# Altium footprint library KlokWave.PcbLib: 24 footprints (part 2 of 2)
Each footprint in its own frame and in the unit in brackets; x right, y up, seen from the top. Pads: shape width x height; smd on the part's side, far side on the other; paste and mask are expansions set on the pad; w line width, h text height; cw(c..) or ccw(c..) is an arc to the next point about the centre after c.
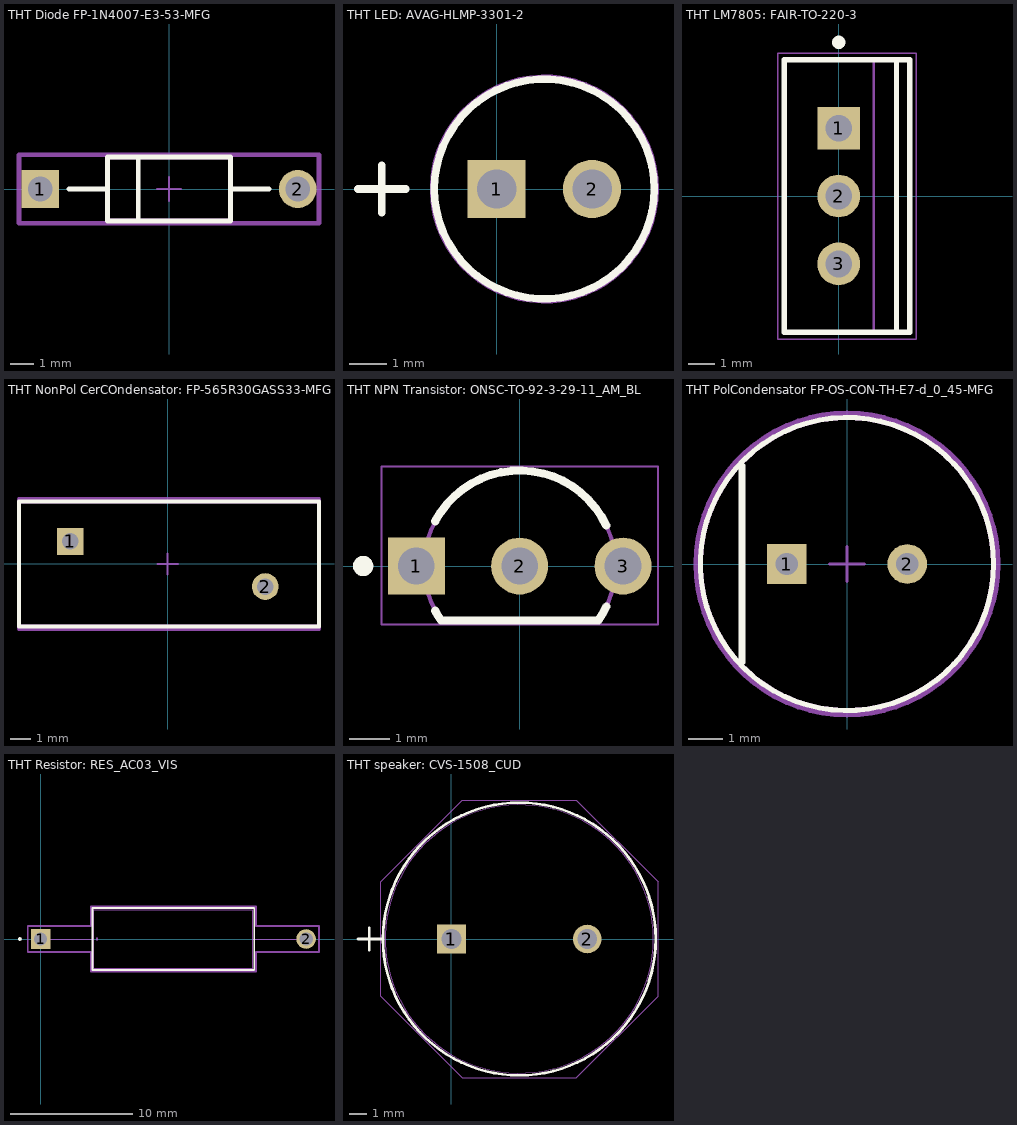
[diagram p1: the footprints below, top view; thin cyan lines are the x and y axes]

## THT Diode FP-1N4007-E3-53-MFG [mm]
pads (2):
  rect 1.6x1.6 hole 1.05: 1(-5.438,0)
  round 1.6 hole 1.05: 2(5.438,0)
Top Overlay:
  lines w0.2: -4.238,0 -2.6,0 ; -1.3,-1.28 -1.3,1.28 ; 2.6,0 4.238,0 ; -2.6,-1.35 -2.6,1.35 2.6,1.35 2.6,-1.35 -2.6,-1.35
Top 3D Body:
  lines w0.2: -2.6,-1.35 -2.6,1.35 2.6,1.35 2.6,-1.35 -2.6,-1.35
Top Courtyard:
  lines w0.2: -6.338,-1.45 -6.338,1.45 6.338,1.45 6.338,-1.45 -6.338,-1.45
Top Assembly:
  lines w0.2: -6.338,-1.45 -6.338,1.45 6.338,1.45 6.338,-1.45 -6.338,-1.45
Top Component Center:
  lines w0.1: -0.5,0 0.5,0 ; 0,-0.5 0,0.5
3D body "Diode_Vishay_1N4007-E3-53_eec.STEP": height 0.25, standoff 0, extent -6.338,-1.45 6.338,1.45

## THT LED: AVAG-HLMP-3301-2 [mm] "THD, 2-Leads, Body Dia 5.85mm"
pads (2):
  rect 1.55x1.55 hole 1.05: 1(0,0)
  round 1.55 hole 1.05: 2(2.54,0)
Top Overlay:
  circle w0.2: c1.27,0 r2.923
  lines w0.2: -3.683,0 -2.413,0 ; -3.048,-0.635 -3.048,0.635
Mechanical 13:
  circle w0.1: c1.27,0 r2.923
Mechanical 15:
  circle w0.05: c1.27,0 r3.023

## THT LM7805: FAIR-TO-220-3 [mm] "FM, 3-Leads, Body 10.2x4.7mm, Pitch 2.54mm"
height 18.95
pads (3):
  rect 1.6x1.6 hole 1: 1(0,2.54)
  round 1.6 hole 1: 2(0,0) 3(0,-2.54)
Top Overlay:
  circle w0.25: c0,5.75 r0.125
  lines w0.2: 2.16,-5.1 2.16,5.1 ; -2.04,-5.1 2.66,-5.1 2.66,5.1 -2.04,5.1 -2.04,-5.1
Mechanical 13:
  lines w0.1: 1.31,-5.1 1.31,5.1 ; -2.04,-5.1 -2.04,5.1 2.66,5.1 2.66,-5.1 -2.04,-5.1
Mechanical 15:
  lines w0.05: -2.29,-5.35 -2.29,5.35 2.91,5.35 2.91,-5.35 -2.29,-5.35
  lines w0.1: -0.5,0 0.5,0 ; 0,-0.5 0,0.5
3D body: height 3, standoff 0, extent -0.265,1.78 0.265,3.3
3D body: height 0, standoff -1.6, extent -0.265,2.14 0.265,2.94
3D body: height 3, standoff 0, extent -0.265,-0.76 0.265,0.76
3D body: height 0, standoff -1.6, extent -0.265,-0.4 0.265,0.4
3D body: height 3, standoff 0, extent -0.265,-3.3 0.265,-1.78
3D body: height 0, standoff -1.6, extent -0.265,-2.94 0.265,-2.14
3D body: height 14.35, standoff 12.2, extent 1.31,-4.95 2.66,4.95
3D body: height 14.39, standoff 14.35, extent 1.31,0.351 2.66,4.95
3D body: height 14.39, standoff 14.35, extent 1.31,-4.95 2.66,-0.351
3D body: height 17.95, standoff 17.92, extent 1.31,0.351 2.66,4.95
3D body: height 17.95, standoff 17.92, extent 1.31,-4.95 2.66,-0.351
3D body: height 14.49, standoff 14.38, extent 1.31,-4.95 2.66,-0.689
3D body: height 17.92, standoff 17.81, extent 1.31,0.689 2.66,4.95
3D body: height 17.92, standoff 17.81, extent 1.31,-4.95 2.66,-0.689
3D body: height 14.66, standoff 14.49, extent 1.31,1 2.66,4.95
3D body: height 14.66, standoff 14.49, extent 1.31,-4.95 2.66,-1
3D body: height 17.82, standoff 17.65, extent 1.31,1 2.66,4.95
3D body: height 17.82, standoff 17.65, extent 1.31,-4.95 2.66,-1
3D body: height 14.88, standoff 14.65, extent 1.31,1.273 2.66,4.95
3D body: height 14.88, standoff 14.65, extent 1.31,-4.95 2.66,-1.273
3D body: height 17.65, standoff 17.42, extent 1.31,1.273 2.66,4.95
3D body: height 17.65, standoff 17.42, extent 1.31,-4.95 2.66,-1.273
3D body: height 15.15, standoff 14.88, extent 1.31,1.497 2.66,4.95
3D body: height 15.15, standoff 14.88, extent 1.31,-4.95 2.66,-1.497
3D body: height 17.43, standoff 17.15, extent 1.31,1.497 2.66,4.95
3D body: height 17.43, standoff 17.15, extent 1.31,-4.95 2.66,-1.497
3D body: height 15.47, standoff 15.15, extent 1.31,1.663 2.66,4.95
3D body: height 15.47, standoff 15.15, extent 1.31,-4.95 2.66,-1.663
3D body: height 17.16, standoff 16.84, extent 1.31,1.663 2.66,4.95
3D body: height 17.16, standoff 16.84, extent 1.31,-4.95 2.66,-1.663
3D body: height 15.8, standoff 15.46, extent 1.31,1.765 2.66,4.95
3D body: height 15.8, standoff 15.46, extent 1.31,-4.95 2.66,-1.765
3D body: height 16.84, standoff 16.5, extent 1.31,1.765 2.66,4.95
3D body: height 16.84, standoff 16.5, extent 1.31,-4.95 2.66,-1.765
3D body: height 16.15, standoff 15.8, extent 1.31,1.8 2.66,4.95
3D body: height 16.15, standoff 15.8, extent 1.31,-4.95 2.66,-1.8
3D body: height 16.51, standoff 16.15, extent 1.31,1.8 2.66,4.95
3D body: height 16.51, standoff 16.15, extent 1.31,-4.95 2.66,-1.8
3D body: height 18.95, standoff 17.95, extent 1.31,-4.95 2.66,4.95
3D body: height 14.49, standoff 14.38, extent 1.31,0.689 2.66,4.95
3D body: height 12.2, standoff 3, extent -2.04,-5.1 2.66,5.1

## THT NonPol CerCOndensator: FP-565R30GASS33-MFG [mm]
pads (2):
  rect 1.3x1.3 hole 0.8: 1(-4.75,1.1)
  round 1.3 hole 0.8: 2(4.75,-1.1)
Top Overlay:
  lines w0.2: -7.239,-3.05 7.366,-3.05 7.366,3.05 -7.239,3.05 -7.239,-3.05
Top 3D Body:
  lines w0.2: -7.239,-3.05 7.366,-3.05 7.366,3.05 -7.239,3.05 -7.239,-3.05
Top Courtyard:
  lines w0.2: -7.239,-3.15 7.366,-3.15 7.366,3.048 -7.239,3.048 -7.239,-3.15
Top Assembly:
  lines w0.2: -7.239,-3.15 7.366,-3.15 7.366,3.15 -7.239,3.15 -7.239,-3.15
Top Component Center:
  lines w0.1: -0.5,0 0.5,0 ; 0,-0.5 0,0.5
3D body: height 0.25, standoff 0, extent -7.239,-3.15 7.366,3.15

## THT NPN Transistor: ONSC-TO-92-3-29-11_AM_BL [mm] "TO, 3-Leads, Body Dia 4.7mm, Pitch 2.54mm"
height 8.923
pads (3):
  rect 1.4x1.4 hole 0.9: 1(-2.54,0)
  round 1.4 hole 0.9: 2(0,0) 3(2.54,0)
Top Overlay:
  circle w0.25: c-3.85,0 r0.125
  lines w0.2: -2.077,-1.1 ccw(c0,0) -1.934,-1.335 1.934,-1.335 ccw(c0,0) 2.129,-0.994 ; -2.077,1.1 cw(c0,0) 2.129,0.994
Mechanical 13:
  lines w0.1: -1.934,-1.335 cw(c0,0) 1.934,-1.335 -1.934,-1.335
Mechanical 15:
  lines w0.05: -3.4,-1.435 -3.4,2.45 3.4,2.45 3.4,-1.435 -3.4,-1.435
  lines w0.1: -0.5,0 0.5,0 ; 0,-0.5 0,0.5
3D body "PCB3.step": height 4, standoff -8.7, extent -2.836,-0.222 2.836,0.223
3D body: height 5.33, standoff 1.5, extent -2.359,-1.335 2.359,2.351

## THT PolCondensator FP-OS-CON-TH-E7-d_0_45-MFG [mm]
pads (2):
  rect 1.15x1.15 hole 0.65: 1(-1.75,0)
  round 1.15 hole 0.65: 2(1.75,0)
Top Overlay:
  circle w0.15: c0,0 r4.25
  lines w0.2: -3.05,-2.85 -3.05,2.85
Top 3D Body:
  circle w0.15: c0,0 r4.25
Top Courtyard:
  lines w0.2: -4.35,0 ccw(c0,0) 4.35,0 ccw(c0,0) -4.35,0
Top Component Center:
  lines w0.1: -0.5,0 0.5,0 ; 0,-0.5 0,0.5
3D body "Cap_Panasonic_10SEPC270MD+C3_eec.STEP": height 0.25, standoff 0, extent -4.35,-4.35 4.35,4.35

## THT Resistor: RES_AC03_VIS [mil]
pads (2):
  rect 63x63 / inner round 60 / far side rect 63x63 hole 43: 1(0,0)
  round 63 / inner round 60 / far side round 63 hole 43: 2(856,0)
Top Overlay:
  circle w6: c-66.5,0 r3
  lines w6: 167,-99.5 689,-99.5 689,99.5 167,99.5 167,-99.5
Mechanical 13:
  circle w0: c182,0 r3
  lines w1: 0,0 172,0 ; 684,0 856,0 ; 172,-94.5 684,-94.5 684,94.5 172,94.5 172,-94.5
Mechanical 15:
  lines w6: -41.5,-41.5 -41.5,41.5 162,41.5 162,104.5 694,104.5 694,41.5 897.5,41.5 897.5,-41.5 694,-41.5 694,-104.5 162,-104.5 162,-41.5 -41.5,-41.5
3D body "RES_AC03_VIS.step": height 189.06, standoff -100, extent -16.5,-94.6 872.52,94.6

## THT speaker: CVS-1508_CUD [mil]
pads (2):
  rect 63x63 hole 43: 1(0,0)
  round 63 hole 43: 2(299,0)
Top Overlay:
  circle w6: c149.5,0 r300.5
  lines w6: -206,0 -156,0 ; -181,-25 -181,25
Mechanical 13:
  circle w0: c149.5,0 r295.5
  lines w1: -206,0 -156,0 ; -181,-25 -181,25
Mechanical 15:
  lines w1: -156,-125.79 -156,125.79 23.71,305.5 275.29,305.5 455,125.79 455,-125.79 275.29,-305.5 23.71,-305.5 -156,-125.79
3D body "CVS-1508_CUD.step": height 295.63, standoff -199.02, extent -145.98,-295.38 446.42,295.38